# EAGLE library part CY2302SXI-1 (library Cypress_By_element14_Batch_1)
Frequency Multiplier and Zero Delay Buffer
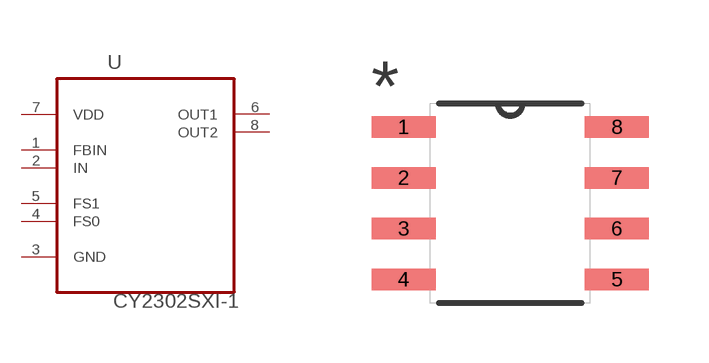
[diagram p3: symbol with the pads of SOIC127P600X172-8N; footprint SOIC127P600X172-8N]

Designator prefix U

## CY2302SXI-1 (DESCRIPTION: Frequency Multiplier and Zero Delay Buffer; MPN: CY2302SXI-1; OC_FARNELL: 1876393; OC_NEWARK: 53M3379; PACKAGE: SOIC-8; SUPPLIER: CYPRESS SEMICONDUCTOR)  [SOIC127P600X172-8N]
1  FBIN  in
2  IN  in
3  GND  pas
4  FS0  in
5  FS1  in
6  OUT1  out
7  VDD  pwr
8  OUT2  out

## Footprint SOIC127P600X172-8N (pad centres in mm)
smd 1.6 x 0.533: 1 -2.667,1.905; 2 -2.667,0.635; 3 -2.667,-0.635; 4 -2.667,-1.905; 5 2.667,-1.905; 6 2.667,-0.635; 7 2.667,0.635; 8 2.667,1.905